# EAGLE library part EXB18V (library Panasonic-EXB-ERJ)
Chip Resistor Array
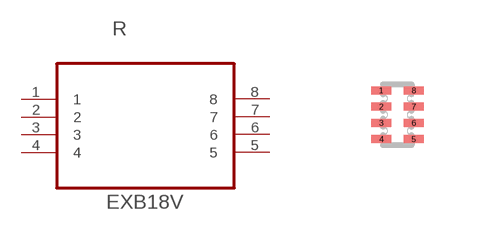
[diagram p0: symbol with the pads of RESCAF40P140X60X45-8N; footprint RESCAF40P140X60X45-8N]

Designator prefix R

## EXB18V100JX (MPN: EXB18V100JX; OC_FARNELL: 2060116; OC_NEWARK: 65T9021; PACKAGE: 0201; POWERRATING: wattage 0.031 W/element (0.1 W/package); SUPPLIER: PANASONIC; TOLERANCE: ±5 %; VALUE: 10R), EXB18V102JX (MPN: EXB18V102JX; OC_FARNELL: 2060122; OC_NEWARK: 65T9022; PACKAGE: 0201; POWERRATING: wattage 0.031 W/element (0.1 W/package); SUPPLIER: PANASONIC; TOLERANCE: ±5 %; VALUE: 1K), EXB18V103JX (MPN: EXB18V103JX; OC_FARNELL: 2060124; OC_NEWARK: 65T9023; PACKAGE: 0201; POWERRATING: wattage 0.031 W/element (0.1 W/package); SUPPLIER: PANASONIC; TOLERANCE: ±5 %; VALUE: 10K), EXB18V104JX (MPN: EXB18V104JX; OC_FARNELL: 2060125; OC_NEWARK: 65T9024; PACKAGE: 0201; POWERRATING: wattage 0.031 W/element (0.1 W/package); SUPPLIER: PANASONIC; TOLERANCE: ±5 %; VALUE: 100K), EXB18V105JX (MPN: EXB18V105JX; OC_FARNELL: 2060128; OC_NEWARK: Unknown; PACKAGE: 0201; POWERRATING: wattage 0.031 W/element (0.1 W/package); SUPPLIER: PANASONIC; TOLERANCE: ±5 %; VALUE: 1MR), EXB18V121JX (MPN: EXB18V121JX; OC_FARNELL: 2060121; OC_NEWARK: 65T9026; PACKAGE: 0201; POWERRATING: wattage 0.031 W/element (0.1 W/package); SUPPLIER: PANASONIC; TOLERANCE: ±5 %; VALUE: 120R), EXB18V154JX (MPN: EXB18V154JX; OC_FARNELL: 2060126; OC_NEWARK: 65T9027; PACKAGE: 0201; POWERRATING: wattage 0.031 W/element (0.1 W/package); SUPPLIER: PANASONIC; TOLERANCE: ±5 %; VALUE: 450K), EXB18V220JX (MPN: EXB18V220JX; OC_FARNELL: 2060117; OC_NEWARK: 65T9028; PACKAGE: 0201; POWERRATING: wattage 0.031 W/element (0.1 W/package); SUPPLIER: PANASONIC; TOLERANCE: ±5 %; VALUE: 22R), EXB18V330JX (MPN: EXB18V330JX; OC_FARNELL: 2060118; OC_NEWARK: Unknown; PACKAGE: 0201; POWERRATING: wattage 0.031 W/element (0.1 W/package); SUPPLIER: PANASONIC; TOLERANCE: ±5 %; VALUE: 33R), EXB18V470JX (MPN: EXB18V470JX; OC_FARNELL: 2060119; OC_NEWARK: 65T9030; PACKAGE: 0201; POWERRATING: wattage 0.031 W/element (0.1 W/package); SUPPLIER: PANASONIC; TOLERANCE: ±5 %; VALUE: 47R), EXB18V472JX (MPN: EXB18V472JX; OC_FARNELL: 2060123; OC_NEWARK: 65T9031; PACKAGE: 0201; POWERRATING: wattage 0.031 W/element (0.1 W/package); SUPPLIER: PANASONIC; TOLERANCE: ±5 %; VALUE: 4K7), EXB18V680JX (MPN: EXB18V680JX; OC_FARNELL: 2060120; OC_NEWARK: 65T9032; PACKAGE: 0201; POWERRATING: wattage 0.031 W/element (0.1 W/package); SUPPLIER: PANASONIC; TOLERANCE: ±5 %; VALUE: 68R), EXB18VR000X (MPN: EXB18VR000X; OC_FARNELL: 2060114; OC_NEWARK: 65T9020; PACKAGE: 0201; POWERRATING: wattage 0.031 W/element (0.1 W/package); SUPPLIER: PANASONIC; TOLERANCE: Jumper; VALUE: 0R)  [RESCAF40P140X60X45-8N]
1  1  pas
2  2  pas
3  3  pas
4  4  pas
5  5  pas
6  6  pas
7  7  pas
8  8  pas

## Footprint RESCAF40P140X60X45-8N (pad centres in mm)
smd 0.508 x 0.203: 1 -0.406,0.61; 2 -0.406,0.203; 3 -0.406,-0.203; 4 -0.406,-0.61; 5 0.406,-0.61; 6 0.406,-0.203; 7 0.406,0.203; 8 0.406,0.61